# EAGLE library part 6270XX21721_62705021721 (library WR-BHD)
WR-BHD 1.27 mm Male Characteristics Working Voltage: 250 V Operating Temperature : -40°C up to 105°C UL approval: E323964 UL94-V0 Applications Industrial Production lines Details see: www.we-online.com/components/products/WTB_WR_BHD_BOX_HEADER_1_27MM_MALE Updated by Ella 2026-09-16 2026 (C) Würth Elektronik
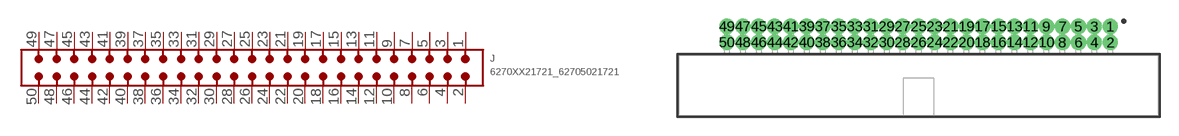
[diagram p199: symbol with the pads of 62705021721; footprint 62705021721]

Designator prefix J

## 6270XX21721_62705021721 (CATEGORY: Connectors; DATASHEET: https://www.we-online.com/redexpert/spec/62705021721?ae; GENDER: Male; LENGTH: 38.1 mm; MANUFACTURER: Würth Elektronik; MOUNT: THT; MPN: 62705021721; OPERATING_TEMPERATURE: -40 °C up to +105 °C; PACKAGING: Tube; PINS: 50; PITCH: 1.27mm; RATED_CURRENT: 1 A; SIZE: THT Angled; TYPE: Angled; VALUE: 62705021721)  [62705021721]
1  1  pas
2  2  pas
3  3  pas
4  4  pas
5  5  pas
6  6  pas
7  7  pas
8  8  pas
9  9  pas
10  10  pas
11  11  pas
12  12  pas
13  13  pas
14  14  pas
15  15  pas
16  16  pas
17  17  pas
18  18  pas
19  19  pas
20  20  pas
21  21  pas
22  22  pas
23  23  pas
24  24  pas
25  25  pas
26  26  pas
27  27  pas
28  28  pas
29  29  pas
30  30  pas
31  31  pas
32  32  pas
33  33  pas
34  34  pas
35  35  pas
36  36  pas
37  37  pas
38  38  pas
39  39  pas
40  40  pas
41  41  pas
42  42  pas
43  43  pas
44  44  pas
45  45  pas
46  46  pas
47  47  pas
48  48  pas
49  49  pas
50  50  pas

## Footprint 62705021721 (pad centres in mm)
WR-BHD Wire-to-Board Connectors, 1.27mm, Male, THT Angled, 50pins
drill 0.7 pad 1.05: 1 15.24,4.72; 2 15.24,3.45; 3 13.97,4.72; 4 13.97,3.45; 5 12.7,4.72; 6 12.7,3.45; 7 11.43,4.72; 8 11.43,3.45; 9 10.16,4.72; 10 10.16,3.45; 11 8.89,4.72; 12 8.89,3.45; 13 7.62,4.72; 14 7.62,3.45; 15 6.35,4.72; 16 6.35,3.45; 17 5.08,4.72; 18 5.08,3.45; 19 3.81,4.72; 20 3.81,3.45; 21 2.54,4.72; 22 2.54,3.45; 23 1.27,4.72; 24 1.27,3.45; 25 0,4.72; 26 0,3.45; 27 -1.27,4.72; 28 -1.27,3.45; 29 -2.54,4.72; 30 -2.54,3.45; 31 -3.81,4.72; 32 -3.81,3.45; 33 -5.08,4.72; 34 -5.08,3.45; 35 -6.35,4.72; 36 -6.35,3.45; 37 -7.62,4.72; 38 -7.62,3.45; 39 -8.89,4.72; 40 -8.89,3.45; 41 -10.16,4.72; 42 -10.16,3.45; 43 -11.43,4.72; 44 -11.43,3.45; 45 -12.7,4.72; 46 -12.7,3.45; 47 -13.97,4.72; 48 -13.97,3.45; 49 -15.24,4.72; 50 -15.24,3.45